# Altium integrated library TLA2024IRUGR.IntLib: 1 symbol
Pins are listed as number, name and electrical type; pins without a type are passive.

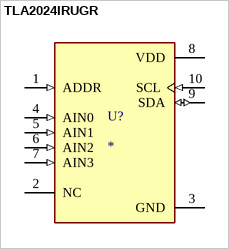
[diagram p0: symbol TLA2024IRUGR]

## TLA2024IRUGR
designator U?
12-bit, 4-channel, delta-sigma ADC with voltage reference, oscillator, PGA and I2C; MF: Texas Instruments; MP: TLA2024IRUGR; SnapEDA_Link: https://www.snapeda.com/parts/TLA2024IRUGR/Texas+Instruments/view-part/?ref=snap; Package: X2QFN-10 Texas Instruments; Value: *; Check_prices: https://www.snapeda.com/parts/TLA2024IRUGR/Texas+Instruments/view-part/?ref=eda
footprint IC_TLA2024IRUGR
pins: 1 ADDR (in), 2 NC, 3 GND (power), 4 AIN0 (in), 5 AIN1 (in), 6 AIN2 (in), 7 AIN3 (in), 8 VDD (power), 9 SDA (io), 10 SCL (in)